# EAGLE library part PCA9306 (library FA3D_lib)
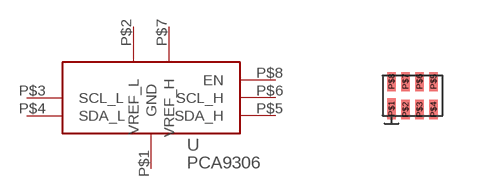
[diagram p11: symbol with the pads of 8-UFDFN; footprint 8-UFDFN]

Designator prefix -

## PCA9306  [8-UFDFN]
P$1  GND
P$2  VREF_L
P$3  SCL_L
P$4  SDA_L
P$5  SDA_H
P$6  SCL_H
P$7  VREF_H
P$8  EN

## Footprint 8-UFDFN (pad centres in mm)
smd 0.22 x 0.53: P$1 -0.525,-0.325
smd 0.22 x 0.48: P$2 -0.175,-0.35; P$3 0.175,-0.35; P$4 0.525,-0.35; P$5 0.525,0.35; P$6 0.175,0.35; P$7 -0.175,0.35; P$8 -0.525,0.35